# Altium footprint library FID_1MM.PcbLib: 1 footprints
Each footprint in its own frame and in the unit in brackets; x right, y up, seen from the top. Pads: shape width x height; smd on the part's side, far side on the other; paste and mask are expansions set on the pad; w line width, h text height; cw(c..) or ccw(c..) is an arc to the next point about the centre after c.
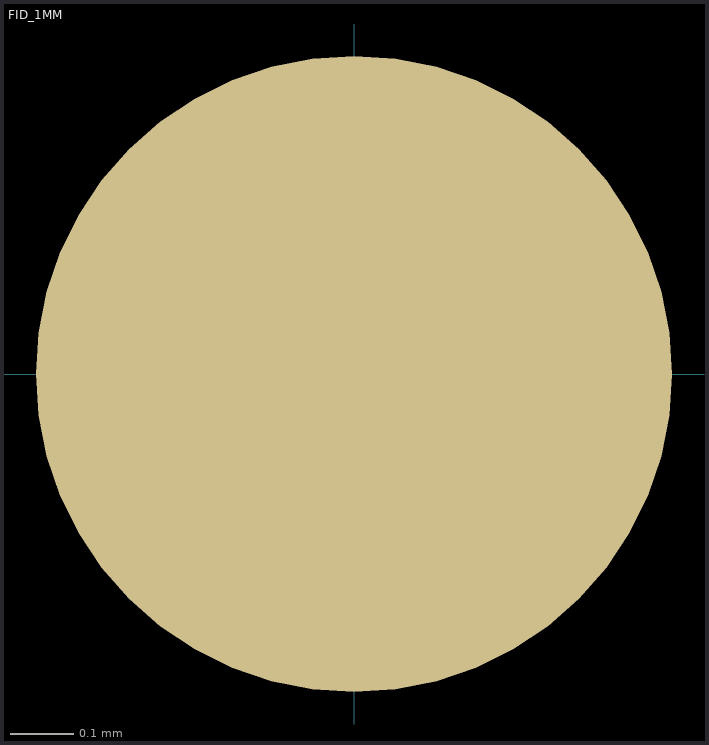
[diagram p0: the footprint, top view; thin cyan lines are the x and y axes]

## FID_1MM [mm] "FID_1MM"
pads (1):
  round 1 smd mask-2539.97: ""(0,0)
Top Solder:
  circle w1: c0,0 r0.5